# Altium schematic symbol library RC207.SchLib: 1 symbol
Pins are listed as number, name and electrical type; pins without a type are passive.

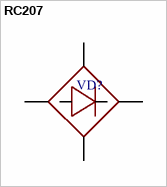
[diagram p0: symbol RC207]

## RC207
designator VD?  (value not drawn)
footprint 2W06
pins: 1, 2, 3, 4